# EAGLE library part AS5134 (library biomimetic)
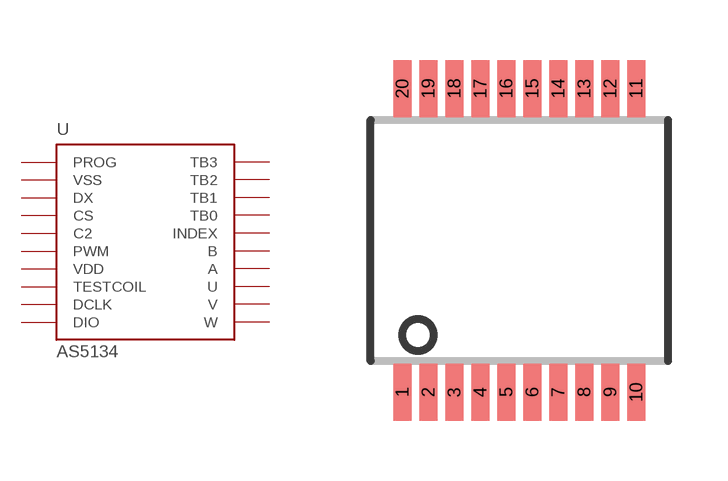
[diagram p13: symbol with the pads of AS5134; footprint AS5134]

Designator prefix -

## AS5134  [AS5134]
1  PROG  in
2  VSS  pwr
3  DX  in
4  CS  in
5  C2  in
6  PWM  out
7  VDD  pwr
8  TESTCOIL  hiz
9  DCLK  in
10  DIO
11  U  out
12  V  out
13  W  out
14  A  out
15  B  out
16  INDEX  out
17  TB0  hiz
18  TB1  hiz
19  TB2  hiz
20  TB3  hiz

## Footprint AS5134 (pad centres in mm)
AS5134 An austria microsystems 10 pin rotary magnetic encoder, used primarily for serial communication abilities and BLDC commutation
smd 0.46 x 1.43: 1 -1.105,-3.945; 2 -0.455,-3.945; 3 0.195,-3.945; 4 0.845,-3.945; 5 1.495,-3.945; 6 2.145,-3.945; 7 2.795,-3.945; 8 3.445,-3.945; 9 4.095,-3.945; 10 4.745,-3.945; 11 4.745,3.645; 12 4.095,3.645; 13 3.445,3.645; 14 2.795,3.645; 15 2.145,3.645; 16 1.495,3.645; 17 0.845,3.645; 18 0.195,3.645; 19 -0.455,3.645; 20 -1.105,3.645